# Altium schematic symbol library OSCILL_12MHz.SchLib: 1 symbol
Pins are listed as number, name and electrical type; pins without a type are passive.

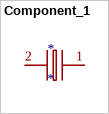
[diagram p0: symbol Component_1]

## Component_1
designator *
XJHCELNANF-12MHZ
footprint PCBComponent_1
pins: 1, 2